# EAGLE library part ZXMHC3A01T8 (library satellite)
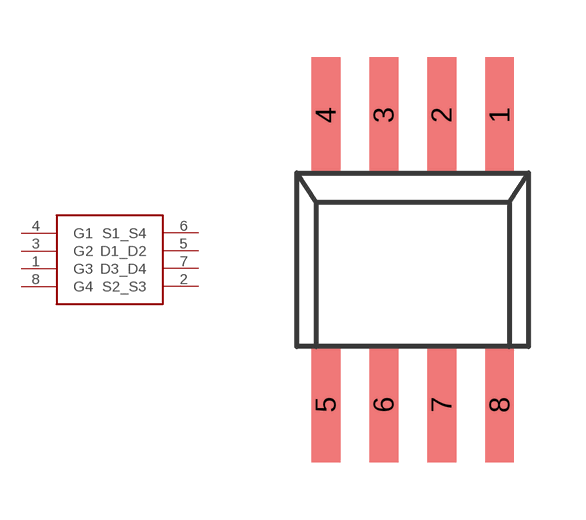
[diagram p14: symbol with the pads of SM8; footprint SM8]

Designator prefix -

## ZXMHC3A01T8  [SM8]
1  G3
2  S2_S3
3  G2
4  G1
5  D1_D2
6  S1_S4
7  D3_D4
8  G4

## Footprint SM8 (pad centres in mm)
smd 0.762 x 3.048: 1 2.286,3.81; 2 0.762,3.81; 3 -0.762,3.81; 4 -2.286,3.81; 5 -2.286,-3.81; 6 -0.762,-3.81; 7 0.762,-3.81; 8 2.286,-3.81